# EAGLE library part CH32V305FBP6_LCSC (library lcsc_parts)
Description: RISC-V4F 32 Bit 144MHz 17 TSSOP-20-175mil Microcontrollers RoHS Manufacturer: WCH MPN: CH32V305FBP6 LCSC Part: C5123443 Category: Microcontrollers Datasheet: https://datasheet.lcsc.com/datasheet/pdf/3feba115063060d9c6ef679ef3dd19d6.pdf?productCode=C5123443
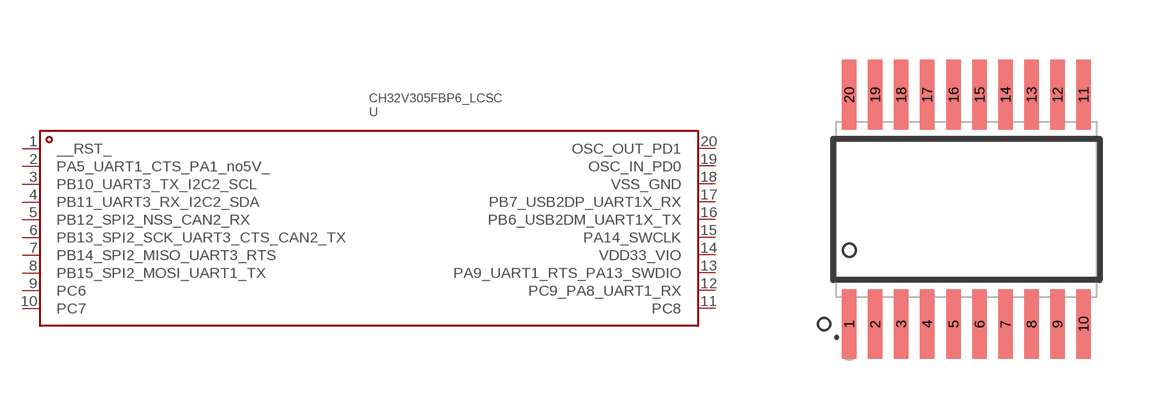
[diagram p19: symbol with the pads of TSSOP-20_L6.5-W4.4-P0.65-LS6.4-BL; footprint TSSOP-20_L6.5-W4.4-P0.65-LS6.4-BL]

Designator prefix U

## CH32V305FBP6_LCSC (ADC_BIT: 12bit; CATEGORY: Microcontrollers; CORE_SIZE: 32 Bit; CPU_CORE: RISC-V4F; CPU_MAXIMUM_SPEED: 144MHz; DAC_BIT: 12bit; DATASHEET: https://datasheet.lcsc.com/datasheet/pdf/3feba115063060d9c6ef679ef3dd19d6.pdf?productCode=C5123443; DESCRIPTION: RISC-V4F 32 Bit 144MHz 17 TSSOP-20-175mil Microcontrollers RoHS; LCSC_PART: C5123443; LCSC_STOCK: 740; MANUFACTURER: WCH; MPN: CH32V305FBP6; NUMBER_OF_I_O: 17; OPERATING_TEMPERATURE: -40℃~+85℃; OSCILLATOR_TYPE: Built-in+External; PARTNO: CH32V305FBP6; PRICING_1000: $1.1665/unit @ 1000; PRICING_50: $1.4349/unit @ 50; PROGRAM_MEMORY_TYPE: FLASH; PROGRAM_STORAGE_SIZE: 128KB; VOLTAGE_SUPPLY: 3.3V)  [TSSOP-20_L6.5-W4.4-P0.65-LS6.4-BL]
1  __RST_
2  PA5_UART1_CTS_PA1_no5V_
3  PB10_UART3_TX_I2C2_SCL
4  PB11_UART3_RX_I2C2_SDA
5  PB12_SPI2_NSS_CAN2_RX
6  PB13_SPI2_SCK_UART3_CTS_CAN2_TX
7  PB14_SPI2_MISO_UART3_RTS
8  PB15_SPI2_MOSI_UART1_TX
9  PC6
10  PC7
11  PC8
12  PC9_PA8_UART1_RX
13  PA9_UART1_RTS_PA13_SWDIO
14  VDD33_VIO
15  PA14_SWCLK
16  PB6_USB2DM_UART1X_TX
17  PB7_USB2DP_UART1X_RX
18  VSS_GND
19  OSC_IN_PD0
20  OSC_OUT_PD1

## Footprint TSSOP-20_L6.5-W4.4-P0.65-LS6.4-BL (pad centres in mm)
smd 0.364 x 1.742: 1 -2.93,-2.87; 2 -2.28,-2.87; 3 -1.63,-2.87; 4 -0.98,-2.87; 5 -0.32,-2.87; 6 0.33,-2.87; 7 0.98,-2.87; 8 1.63,-2.87; 9 2.28,-2.87; 10 2.93,-2.87; 11 2.93,2.87; 12 2.28,2.87; 13 1.63,2.87; 14 0.98,2.87; 15 0.33,2.87; 16 -0.32,2.87; 17 -0.98,2.87; 18 -1.63,2.87; 19 -2.28,2.87; 20 -2.93,2.87